# Altium schematic symbol library NAVC.SchLib: 10 symbols
Pins are listed as number, name and electrical type; pins without a type are passive.

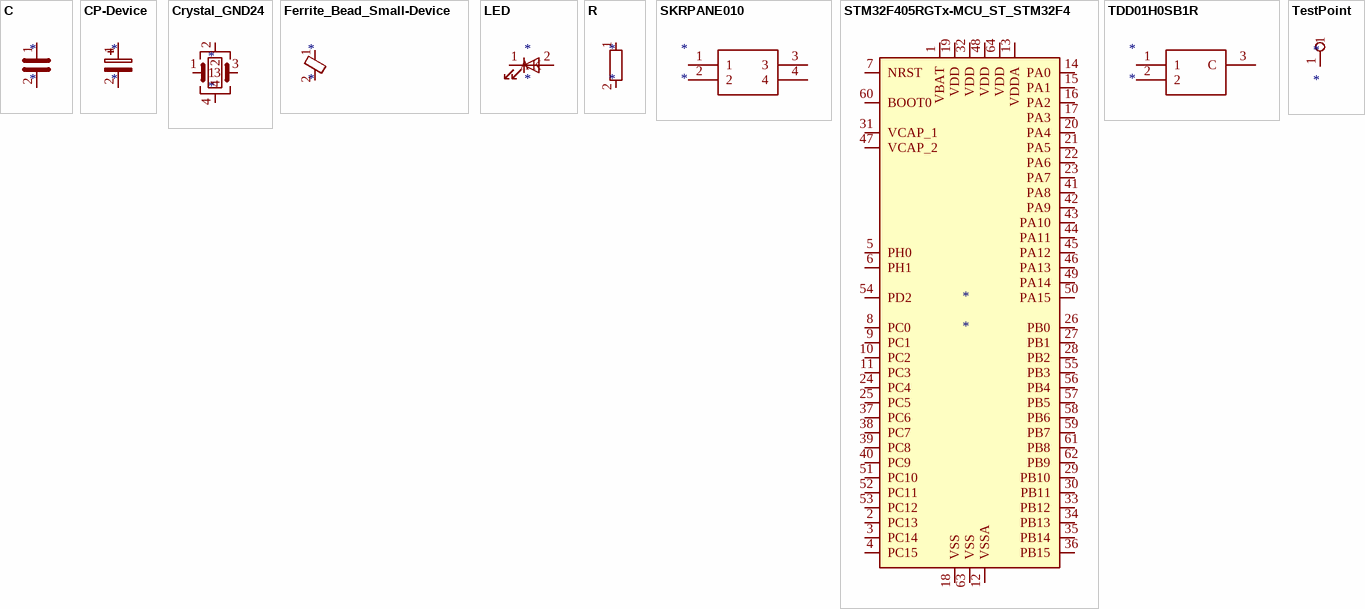
[diagram p0: symbols C to TestPoint]

## C
designator *
pins: 1, 2

## CP-Device
designator *
pins: 1, 2

## Crystal_GND24
designator *
pins: 1, 2, 3, 4

## Ferrite_Bead_Small-Device
designator *
pins: 1, 2

## LED
designator *
pins: 1 K, 2 A

## R
designator *
pins: 1, 2

## SKRPANE010
designator *
pins: 1, 2, 3, 4

## STM32F405RGTx-MCU_ST_STM32F4
designator *
pins: 1 VBAT, 2 PC13, 3 PC14, 4 PC15, 5 PH0, 6 PH1, 7 NRST, 8 PC0, 9 PC1, 10 PC2, 11 PC3, 12 VSSA, 13 VDDA, 14 PA0, 15 PA1, 16 PA2, 17 PA3, 18 VSS, 19 VDD, 20 PA4, 21 PA5, 22 PA6, 23 PA7, 24 PC4, 25 PC5, 26 PB0, 27 PB1, 28 PB2, 29 PB10, 30 PB11, 31 VCAP_1, 32 VDD, 33 PB12, 34 PB13, 35 PB14, 36 PB15, 37 PC6, 38 PC7, 39 PC8, 40 PC9, 41 PA8, 42 PA9, 43 PA10, 44 PA11, 45 PA12, 46 PA13, 47 VCAP_2, 48 VDD, 49 PA14, 50 PA15, 51 PC10, 52 PC11, 53 PC12, 54 PD2, 55 PB3, 56 PB4, 57 PB5, 58 PB6, 59 PB7, 60 BOOT0, 61 PB8, 62 PB9, 63 VSS, 64 VDD

## TDD01H0SB1R
designator *
pins: 1, 2, 3 C

## TestPoint
designator *
pins: 1